# EAGLE library part M2-BIGHOLES (library zz-upenn 2)
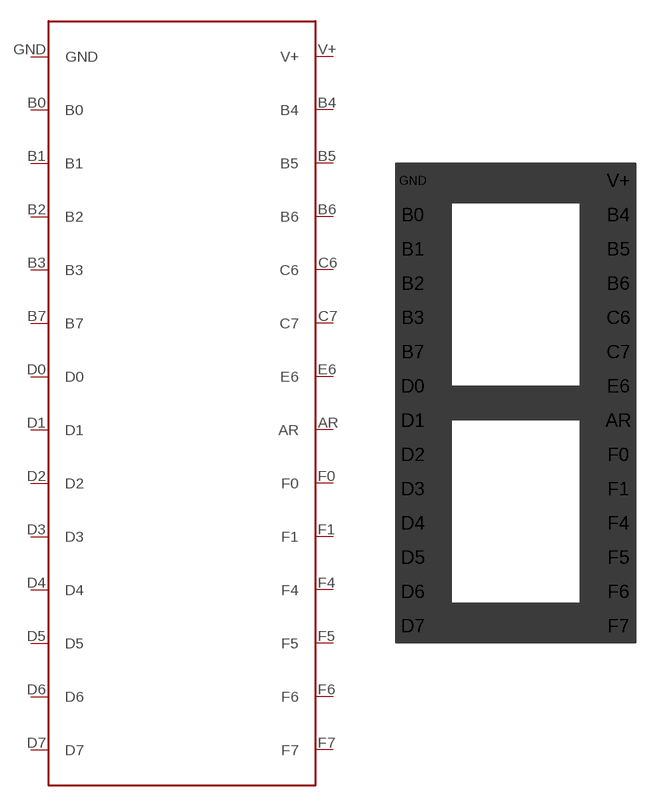
[diagram p38: symbol with the pads of M1-BIGHOLES; footprint M1-BIGHOLES]

Designator prefix -

## M2-BIGHOLES  [M1-BIGHOLES]
AR  AR
B0  B0
B1  B1
B2  B2
B3  B3
B4  B4
B5  B5
B6  B6
B7  B7
C6  C6
C7  C7
D0  D0
D1  D1
D2  D2
D3  D3
D4  D4
D5  D5
D6  D6
D7  D7
E6  E6
F0  F0
F1  F1
F4  F4
F5  F5
F6  F6
F7  F7
GND  GND
V+  V+

## Footprint M1-BIGHOLES (pad centres in mm)
drill 1: AR 7.62,-1.27; B0 -7.62,13.97; B1 -7.62,11.43; B2 -7.62,8.89; B3 -7.62,6.35; B4 7.62,13.97; B5 7.62,11.43; B6 7.62,8.89; B7 -7.62,3.81; C6 7.62,6.35; C7 7.62,3.81; D0 -7.62,1.27; D1 -7.62,-1.27; D2 -7.62,-3.81; D3 -7.62,-6.35; D4 -7.62,-8.89; D5 -7.62,-11.43; D6 -7.62,-13.97; D7 -7.62,-16.51; E6 7.62,1.27; F0 7.62,-3.81; F1 7.62,-6.35; F4 7.62,-8.89; F5 7.62,-11.43; F6 7.62,-13.97; F7 7.62,-16.51; GND -7.62,16.51; V+ 7.62,16.51